# EAGLE library part CL-PS7500FE (library cirrus)
Cirrus Logic PS7500FE
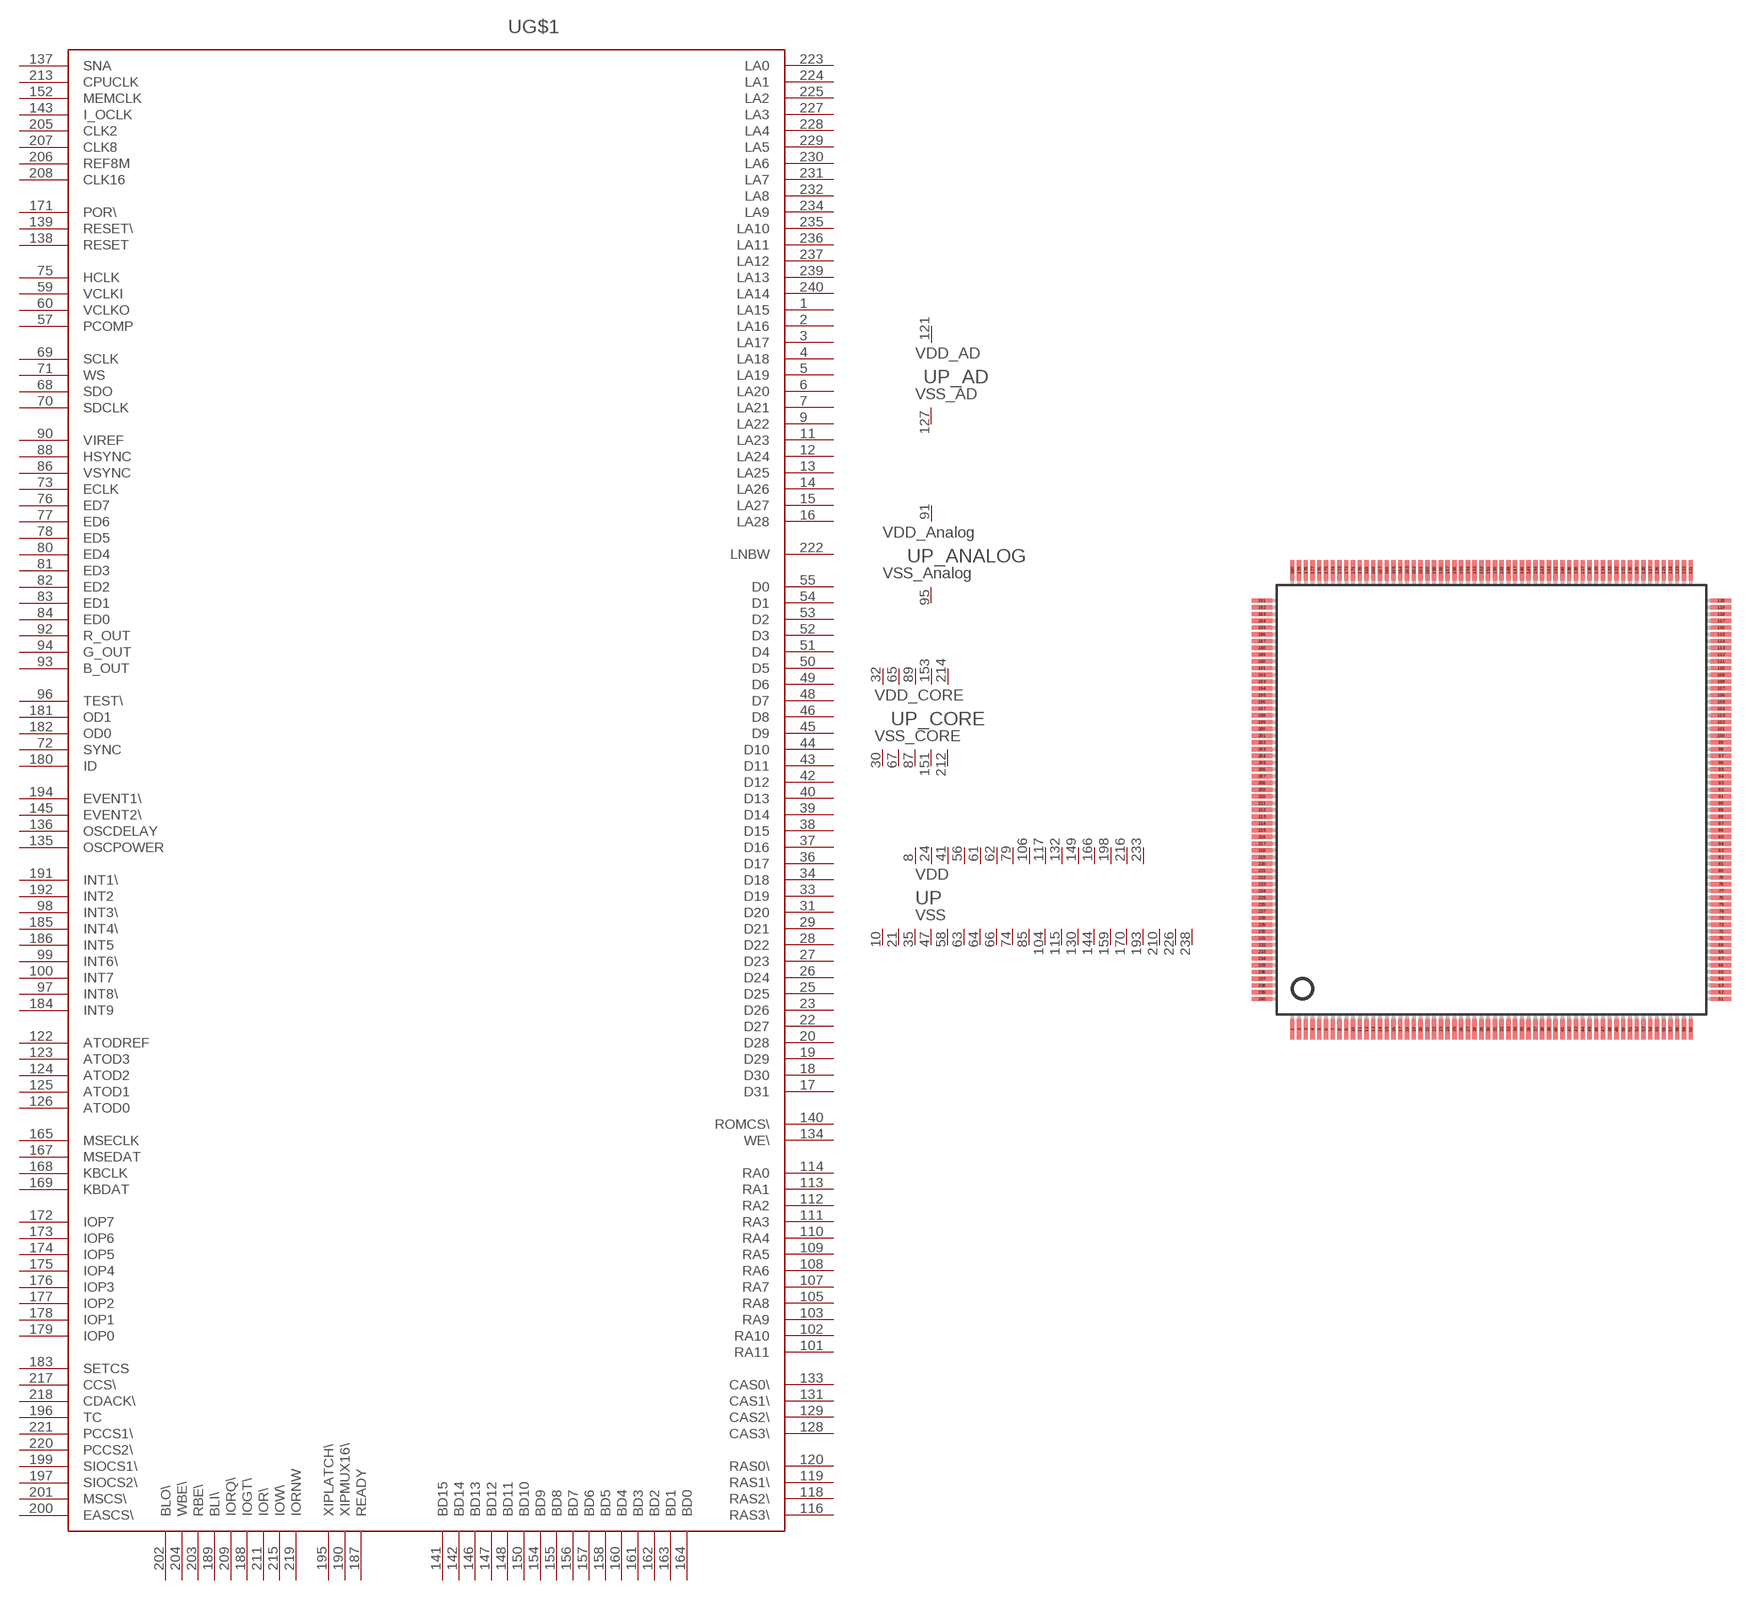
[diagram p0: symbol with the pads of PQFP240; footprint PQFP240]

Designator prefix U; gates G$1=PS7500FE P_AD=PWR7500_AD P_ANALOG=PWR7500_ANALOG P_CORE=PWR7500_CORE P=PWR7500_IO

## CL-PS7500FE  [PQFP240]
1  G$1:LA15  out
2  G$1:LA16  out
3  G$1:LA17  out
4  G$1:LA18  out
5  G$1:LA19  out
6  G$1:LA20  out
7  G$1:LA21  out
8  P:VDD  pwr
9  G$1:LA22  out
10  P:VSS  pwr
11  G$1:LA23  out
12  G$1:LA24  out
13  G$1:LA25  out
14  G$1:LA26  out
15  G$1:LA27  out
16  G$1:LA28  out
17  G$1:D31
18  G$1:D30
19  G$1:D29
20  G$1:D28
21  P:VSS  pwr
22  G$1:D27
23  G$1:D26
24  P:VDD  pwr
25  G$1:D25
26  G$1:D24
27  G$1:D23
28  G$1:D22
29  G$1:D21
30  P_CORE:VSS_CORE  pwr
31  G$1:D20
32  P_CORE:VDD_CORE  pwr
33  G$1:D19
34  G$1:D18
35  P:VSS  pwr
36  G$1:D17
37  G$1:D16
38  G$1:D15
39  G$1:D14
40  G$1:D13
41  P:VDD  pwr
42  G$1:D12
43  G$1:D11
44  G$1:D10
45  G$1:D9
46  G$1:D8
47  P:VSS  pwr
48  G$1:D7
49  G$1:D6
50  G$1:D5
51  G$1:D4
52  G$1:D3
53  G$1:D2
54  G$1:D1
55  G$1:D0
56  P:VDD  pwr
57  G$1:PCOMP  out
58  P:VSS  pwr
59  G$1:VCLKI  in
60  G$1:VCLKO  out
61  P:VDD  pwr
62  P:VDD  pwr
63  P:VSS  pwr
64  P:VSS  pwr
65  P_CORE:VDD_CORE  pwr
66  P:VSS  pwr
67  P_CORE:VSS_CORE  pwr
68  G$1:SDO  out
69  G$1:SCLK  in
70  G$1:SDCLK  out
71  G$1:WS  out
72  G$1:SYNC  in
73  G$1:ECLK  out
74  P:VSS  pwr
75  G$1:HCLK  in
76  G$1:ED7  out
77  G$1:ED6  out
78  G$1:ED5  out
79  P:VDD  pwr
80  G$1:ED4  out
81  G$1:ED3  out
82  G$1:ED2  out
83  G$1:ED1  out
84  G$1:ED0  out
85  P:VSS  pwr
86  G$1:VSYNC  out
87  P_CORE:VSS_CORE  pwr
88  G$1:HSYNC  out
89  P_CORE:VDD_CORE  pwr
90  G$1:VIREF  in
91  P_ANALOG:VDD_ANALOG  pwr
92  G$1:R_OUT  out
93  G$1:B_OUT  out
94  G$1:G_OUT  out
95  P_ANALOG:VSS_ANALOG  pwr
96  G$1:TEST\  in
97  G$1:INT8\  in
98  G$1:INT3\  in
99  G$1:INT6\  in
100  G$1:INT7  in
101  G$1:RA11
102  G$1:RA10  out
103  G$1:RA9  out
104  P:VSS  pwr
105  G$1:RA8  out
106  P:VDD  pwr
107  G$1:RA7  out
108  G$1:RA6  out
109  G$1:RA5  out
110  G$1:RA4  out
111  G$1:RA3  out
112  G$1:RA2  out
113  G$1:RA1  out
114  G$1:RA0  out
115  P:VSS  pwr
116  G$1:RAS3\  out
117  P:VDD  pwr
118  G$1:RAS2\  out
119  G$1:RAS1\  out
120  G$1:RAS0\  out
121  P_AD:VDD_AD  pwr
122  G$1:ATODREF  in
123  G$1:ATOD3  in
124  G$1:ATOD2  in
125  G$1:ATOD1  in
126  G$1:ATOD0  in
127  P_AD:VSS_AD  pwr
128  G$1:CAS3\  out
129  G$1:CAS2\  out
130  P:VSS  pwr
131  G$1:CAS1\  out
132  P:VDD  pwr
133  G$1:CAS0\  out
134  G$1:WE\  out
135  G$1:OSCPOWER  out
136  G$1:OSCDELAY  out
137  G$1:SNA  in
138  G$1:RESET  out
139  G$1:RESET\  out
140  G$1:ROMCS\  out
141  G$1:BD15
142  G$1:BD14
143  G$1:I_OCLK  in
144  P:VSS  pwr
145  G$1:EVENT2\  in
146  G$1:BD13
147  G$1:BD12
148  G$1:BD11
149  P:VDD  pwr
150  G$1:BD10
151  P_CORE:VSS_CORE  pwr
152  G$1:MEMCLK  in
153  P_CORE:VDD_CORE  pwr
154  G$1:BD9
155  G$1:BD8
156  G$1:BD7
157  G$1:BD6
158  G$1:BD5
159  P:VSS  pwr
160  G$1:BD4
161  G$1:BD3
162  G$1:BD2
163  G$1:BD1
164  G$1:BD0
165  G$1:MSECLK
166  P:VDD  pwr
167  G$1:MSEDAT
168  G$1:KBCLK
169  G$1:KBDAT
170  P:VSS  pwr
171  G$1:POR\  in
172  G$1:IOP7
173  G$1:IOP6
174  G$1:IOP5
175  G$1:IOP4
176  G$1:IOP3
177  G$1:IOP2
178  G$1:IOP1
179  G$1:IOP0
180  G$1:ID  out
181  G$1:OD1  out
182  G$1:OD0  out
183  G$1:SETCS  in
184  G$1:INT9  in
185  G$1:INT4\  in
186  G$1:INT5  in
187  G$1:READY  in
188  G$1:IOGT\  in
189  G$1:BLI\  in
190  G$1:XIPMUX16\  in
191  G$1:INT1\  in
192  G$1:INT2  in
193  P:VSS  pwr
194  G$1:EVENT1\  in
195  G$1:XIPLATCH\  in
196  G$1:TC  out
197  G$1:SIOCS2\  out
198  P:VDD  pwr
199  G$1:SIOCS1\  out
200  G$1:EASCS\  out
201  G$1:MSCS\  out
202  G$1:BLO\  out
203  G$1:RBE\  out
204  G$1:WBE\  out
205  G$1:CLK2  out
206  G$1:REF8M  out
207  G$1:CLK8  out
208  G$1:CLK16  out
209  G$1:IORQ\  out
210  P:VSS  pwr
211  G$1:IOR\  out
212  P_CORE:VSS_CORE  pwr
213  G$1:CPUCLK  in
214  P_CORE:VDD_CORE  pwr
215  G$1:IOW\  out
216  P:VDD  pwr
217  G$1:CCS\  out
218  G$1:CDACK\  out
219  G$1:IORNW  out
220  G$1:PCCS2\  out
221  G$1:PCCS1\  out
222  G$1:LNBW  out
223  G$1:LA0  out
224  G$1:LA1  out
225  G$1:LA2  out
226  P:VSS  pwr
227  G$1:LA3  out
228  G$1:LA4  out
229  G$1:LA5  out
230  G$1:LA6  out
231  G$1:LA7  out
232  G$1:LA8  out
233  P:VDD  pwr
234  G$1:LA9  out
235  G$1:LA10  out
236  G$1:LA11  out
237  G$1:LA12  out
238  P:VSS  pwr
239  G$1:LA13  out
240  G$1:LA14  out

## Footprint PQFP240 (pad centres in mm)
smd 0.32 x 1.5: 1 -14.75,-17; 2 -14.25,-17; 3 -13.75,-17; 4 -13.25,-17; 5 -12.75,-17; 6 -12.25,-17; 7 -11.75,-17; 8 -11.25,-17; 9 -10.75,-17; 10 -10.25,-17; 11 -9.75,-17; 12 -9.25,-17; 13 -8.75,-17; 14 -8.25,-17; 15 -7.75,-17; 16 -7.25,-17; 17 -6.75,-17; 18 -6.25,-17; 19 -5.75,-17; 20 -5.25,-17; 21 -4.75,-17; 22 -4.25,-17; 23 -3.75,-17; 24 -3.25,-17; 25 -2.75,-17; 26 -2.25,-17; 27 -1.75,-17; 28 -1.25,-17; 29 -0.75,-17; 30 -0.25,-17; 31 0.25,-17; 32 0.75,-17; 33 1.25,-17; 34 1.75,-17; 35 2.25,-17; 36 2.75,-17; 37 3.25,-17; 38 3.75,-17; 39 4.25,-17; 40 4.75,-17; 41 5.25,-17; 42 5.75,-17; 43 6.25,-17; 44 6.75,-17; 45 7.25,-17; 46 7.75,-17; 47 8.25,-17; 48 8.75,-17; 49 9.25,-17; 50 9.75,-17; 51 10.25,-17; 52 10.75,-17; 53 11.25,-17; 54 11.75,-17; 55 12.25,-17; 56 12.75,-17; 57 13.25,-17; 58 13.75,-17; 59 14.25,-17; 60 14.75,-17; 121 14.75,17; 122 14.25,17; 123 13.75,17; 124 13.25,17; 125 12.75,17; 126 12.25,17; 127 11.75,17; 128 11.25,17; 129 10.75,17; 130 10.25,17; 131 9.75,17; 132 9.25,17; 133 8.75,17; 134 8.25,17; 135 7.75,17; 136 7.25,17; 137 6.75,17; 138 6.25,17; 139 5.75,17; 140 5.25,17; 141 4.75,17; 142 4.25,17; 143 3.75,17; 144 3.25,17; 145 2.75,17; 146 2.25,17; 147 1.75,17; 148 1.25,17; 149 0.75,17; 150 0.25,17; 151 -0.25,17; 152 -0.75,17; 153 -1.25,17; 154 -1.75,17; 155 -2.25,17; 156 -2.75,17; 157 -3.25,17; 158 -3.75,17; 159 -4.25,17; 160 -4.75,17; 161 -5.25,17; 162 -5.75,17; 163 -6.25,17; 164 -6.75,17; 165 -7.25,17; 166 -7.75,17; 167 -8.25,17; 168 -8.75,17; 169 -9.25,17; 170 -9.75,17; 171 -10.25,17; 172 -10.75,17; 173 -11.25,17; 174 -11.75,17; 175 -12.25,17; 176 -12.75,17; 177 -13.25,17; 178 -13.75,17; 179 -14.25,17; 180 -14.75,17
smd 1.5 x 0.32: 61 17,-14.75; 62 17,-14.25; 63 17,-13.75; 64 17,-13.25; 65 17,-12.75; 66 17,-12.25; 67 17,-11.75; 68 17,-11.25; 69 17,-10.75; 70 17,-10.25; 71 17,-9.75; 72 17,-9.25; 73 17,-8.75; 74 17,-8.25; 75 17,-7.75; 76 17,-7.25; 77 17,-6.75; 78 17,-6.25; 79 17,-5.75; 80 17,-5.25; 81 17,-4.75; 82 17,-4.25; 83 17,-3.75; 84 17,-3.25; 85 17,-2.75; 86 17,-2.25; 87 17,-1.75; 88 17,-1.25; 89 17,-0.75; 90 17,-0.25; 91 17,0.25; 92 17,0.75; 93 17,1.25; 94 17,1.75; 95 17,2.25; 96 17,2.75; 97 17,3.25; 98 17,3.75; 99 17,4.25; 100 17,4.75; 101 17,5.25; 102 17,5.75; 103 17,6.25; 104 17,6.75; 105 17,7.25; 106 17,7.75; 107 17,8.25; 108 17,8.75; 109 17,9.25; 110 17,9.75; 111 17,10.25; 112 17,10.75; 113 17,11.25; 114 17,11.75; 115 17,12.25; 116 17,12.75; 117 17,13.25; 118 17,13.75; 119 17,14.25; 120 17,14.75; 181 -17,14.75; 182 -17,14.25; 183 -17,13.75; 184 -17,13.25; 185 -17,12.75; 186 -17,12.25; 187 -17,11.75; 188 -17,11.25; 189 -17,10.75; 190 -17,10.25; 191 -17,9.75; 192 -17,9.25; 193 -17,8.75; 194 -17,8.25; 195 -17,7.75; 196 -17,7.25; 197 -17,6.75; 198 -17,6.25; 199 -17,5.75; 200 -17,5.25; 201 -17,4.75; 202 -17,4.25; 203 -17,3.75; 204 -17,3.25; 205 -17,2.75; 206 -17,2.25; 207 -17,1.75; 208 -17,1.25; 209 -17,0.75; 210 -17,0.25; 211 -17,-0.25; 212 -17,-0.75; 213 -17,-1.25; 214 -17,-1.75; 215 -17,-2.25; 216 -17,-2.75; 217 -17,-3.25; 218 -17,-3.75; 219 -17,-4.25; 220 -17,-4.75; 221 -17,-5.25; 222 -17,-5.75; 223 -17,-6.25; 224 -17,-6.75; 225 -17,-7.25; 226 -17,-7.75; 227 -17,-8.25; 228 -17,-8.75; 229 -17,-9.25; 230 -17,-9.75; 231 -17,-10.25; 232 -17,-10.75; 233 -17,-11.25; 234 -17,-11.75; 235 -17,-12.25; 236 -17,-12.75; 237 -17,-13.25; 238 -17,-13.75; 239 -17,-14.25; 240 -17,-14.75